# EAGLE library part 52892-1695 (library 52892-xx95)
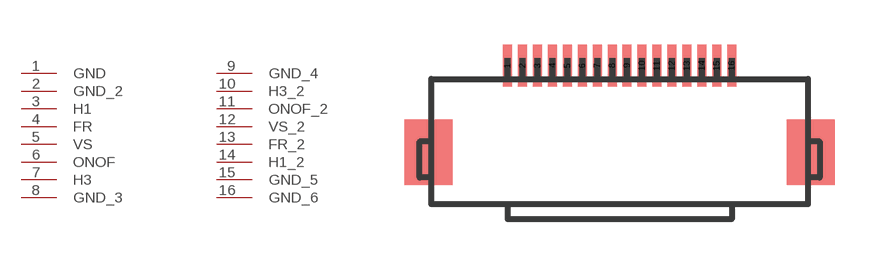
[diagram p0: symbol with the pads of 52892-1695; footprint 52892-1695]

Designator prefix -

## 52892-1695  [52892-1695]
1  GND
2  GND_2
3  H1
4  FR
5  VS
6  ONOF
7  H3
8  GND_3
9  GND_4
10  H3_2
11  ONOF_2
12  VS_2
13  FR_2
14  H1_2
15  GND_5
16  GND_6

## Footprint 52892-1695 (pad centres in mm)
FFC/FPC-to-Board 0.50mm (.020") SMT Top Contact Right Angle, ZIF, Style Receptacle 52745 / 52435 Source: http://www.molex.com/product/ffc/52745.html
smd 0.3 x 1.4: 1 -2.75,2.5; 2 -2.25,2.5; 3 -1.75,2.5; 4 -1.25,2.5; 5 -0.75,2.5; 6 -0.25,2.5; 7 0.25,2.5; 8 0.75,2.5; 9 1.25,2.5; 10 1.75,2.5; 11 2.25,2.5; 12 2.75,2.5; 13 3.25,2.5; 14 3.75,2.5; 15 4.25,2.5; 16 4.75,2.5